# Altium footprint library 贴片陶瓷电容.PcbLib: 19 footprints (part 2 of 2)
Each footprint in its own frame and in the unit in brackets; x right, y up, seen from the top. Pads: shape width x height; smd on the part's side, far side on the other; paste and mask are expansions set on the pad; w line width, h text height; cw(c..) or ccw(c..) is an arc to the next point about the centre after c.
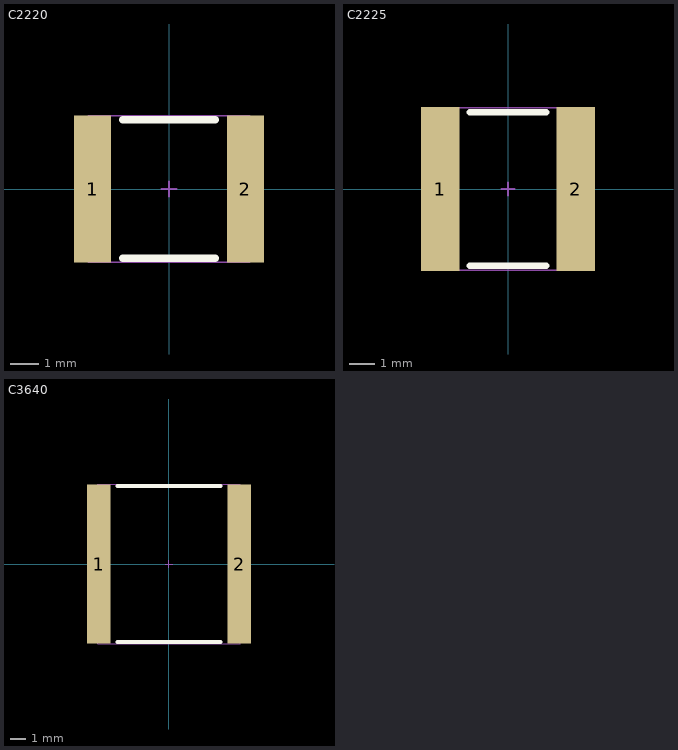
[diagram p1: the footprints below, top view; thin cyan lines are the x and y axes]

## C2220 [mm] "VISHAY VJ贴片电容"
height 2.2
pads (2):
  rect 1.27x5.1 smd: 1(-2.65,0) 2(2.65,0)
Top Overlay:
  lines w0.254: -1.6,-2.4 1.6,-2.4 ; -1.6,2.4 1.6,2.4
Mechanical 13:
  lines w0.05: -2.795,-2.54 -2.795,2.54 2.795,2.54 2.795,-2.54 -2.795,-2.54
Mechanical 15:
  lines w0.076: -0.254,0 0.254,0 ; 0,-0.254 0,0.254
3D body: height 2, standoff 0, extent -2.795,-2.54 2.795,2.54

## C2225 [mm] "VISHAY VJ贴片电容"
height 2.2
pads (2):
  rect 1.5x6.4 smd: 1(-2.65,0) 2(2.65,0)
Top Overlay:
  lines w0.254: -1.5,-3 1.5,-3 ; -1.5,3 1.5,3
Mechanical 13:
  lines w0.05: -2.896,-3.175 2.694,-3.175 2.694,3.175 -2.896,3.175 -2.896,-3.175
Mechanical 15:
  lines w0.076: -0.254,0 0.254,0 ; 0,-0.254 0,0.254
3D body: height 2, standoff 0, extent -2.896,-3.175 2.694,3.175

## C3640 [mm] "VISHAY VJ贴片电容"
height 2.2
pads (2):
  rect 1.5x10.2 smd: 1(-4.5,0) 2(4.5,0)
Top Overlay:
  lines w0.254: -3.3,-5 3.3,-5 ; -3.296,5.004 3.302,5.004
Mechanical 13:
  lines w0.05: -4.568,-5.1 -4.568,5.1 4.572,5.1 4.572,-5.1 -4.568,-5.1
Mechanical 15:
  lines w0.076: -0.254,0 0.254,0 ; 0,-0.254 0,0.254
3D body: height 2.19, standoff 0.01, extent -4.568,-5.1 4.572,5.1